# Altium schematic symbol library Parts_Library.SchLib: 2 symbols
Pins are listed as number, name and electrical type; pins without a type are passive.

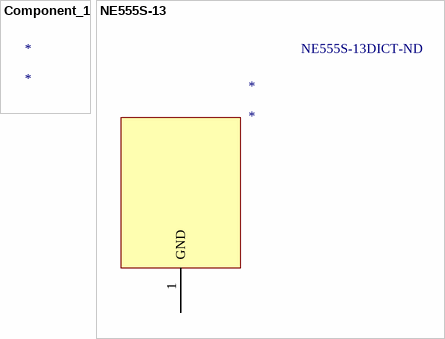
[diagram p0: symbols Component_1 to NE555S-13]

## Component_1
designator *

## NE555S-13
designator *  Supplier Part Number 1: NE555S-13DICT-ND
555 Type, Timer/Oscillator (Single) IC 500kHz 8-SOIC (0.154", 3.90mm Width); Manufacturer: Diodes; Manufacturer Part Number: NE555S-13; Max Supply Voltage: 16V; Min Supply Voltage: 4.5V; Operating Supply Current: 13mA; High Level Output Current: -200mA; Low Level Output Current: 200mA; Quiescent Current: 15mA; Number of Timers/Counters: 1; Supplier 1: Digi-Key; Stock 1: 2664; Pricing 1: 1=0.37, 10=0.303, 100=0.206, 500=0.1545, 1000=0.1159 (USD); Mount: Surface Mount; Case/Package: SO; Number of Pins: 8; Weight: 0.01787oz; Contact Plating: Tin,Matte; Min Operating Temperature: 0°C; Max Operating Temperature: 70°C; Packaging: Tape and Reel; Package Quantity: 2500; Frequency: 500kHz; Length: 4.95mm; Height: 1.5mm; Width: 3.95mm; Radiation Hardening: No; Lead Free: Lead Free; REACH SVHC: No SVHC; ComponentLink1URL: https://datasheet.ciiva.com/1232/ne555-sa555-na555-1232519.pdf; ComponentLink1Description: https://datasheet.ciiva.com/1232/ne555-sa555-na555-1232519.pdf; ComponentLink2URL: https://datasheet.ciiva.com/1232/ne555-sa555-na555-1232520.pdf; ComponentLink2Description: https://datasheet.ciiva.com/1232/ne555-sa555-na555-1232520.pdf; ComponentLink3URL: https://datasheet.ciiva.com/1232/ne555-sa555-na555-1232521.pdf; ComponentLink3Description: https://datasheet.ciiva.com/1232/ne555-sa555-na555-1232521.pdf
pins: 1 GND